# EAGLE library part ADUM1401-BREAKOUT (library SolarJackets)
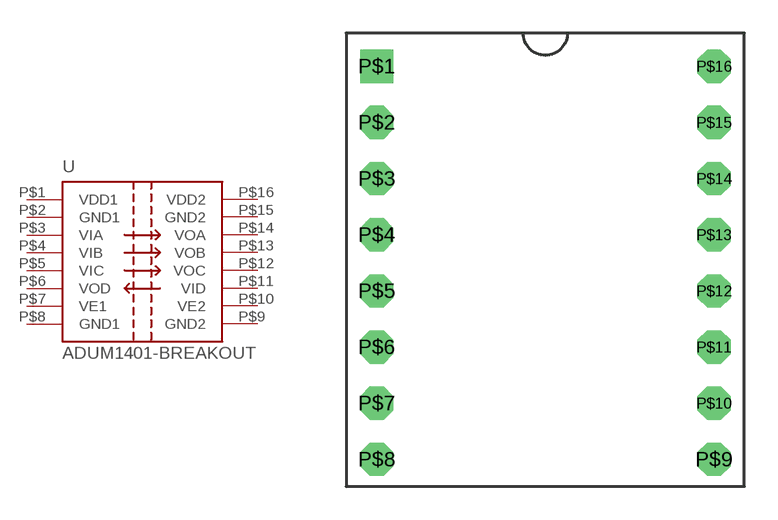
[diagram p8: symbol with the pads of ADUM1401-BREAKOUT; footprint ADUM1401-BREAKOUT]

Designator prefix -

## ADUM1401-BREAKOUT  [ADUM1401-BREAKOUT]
P$1  VDD1  pwr
P$2  GND1  sup
P$3  VIA  in
P$4  VIB  in
P$5  VIC  in
P$6  VOD  out
P$7  VE1  pas
P$8  GND1  sup
P$9  GND2  sup
P$10  VE2  pas
P$11  VID  in
P$12  VOC  out
P$13  VOB  out
P$14  VOA  out
P$15  GND2  sup
P$16  VDD2  pwr

## Footprint ADUM1401-BREAKOUT (pad centres in mm)
drill 1 square: P$1 -7.62,0
drill 1 octagon: P$2 -7.62,-2.54; P$3 -7.62,-5.08; P$4 -7.62,-7.62; P$5 -7.62,-10.16; P$6 -7.62,-12.7; P$7 -7.62,-15.24; P$8 -7.62,-17.78; P$9 7.62,-17.78; P$10 7.62,-15.24; P$11 7.62,-12.7; P$12 7.62,-10.16; P$13 7.62,-7.62; P$14 7.62,-5.08; P$15 7.62,-2.54; P$16 7.62,0